# EAGLE library part ESP32-S2 (library ESP32-S2)
Check availability <https://pricing.snapeda.com/parts/ESP32-S2/Espressif%20Systems/view-part?ref=eda>
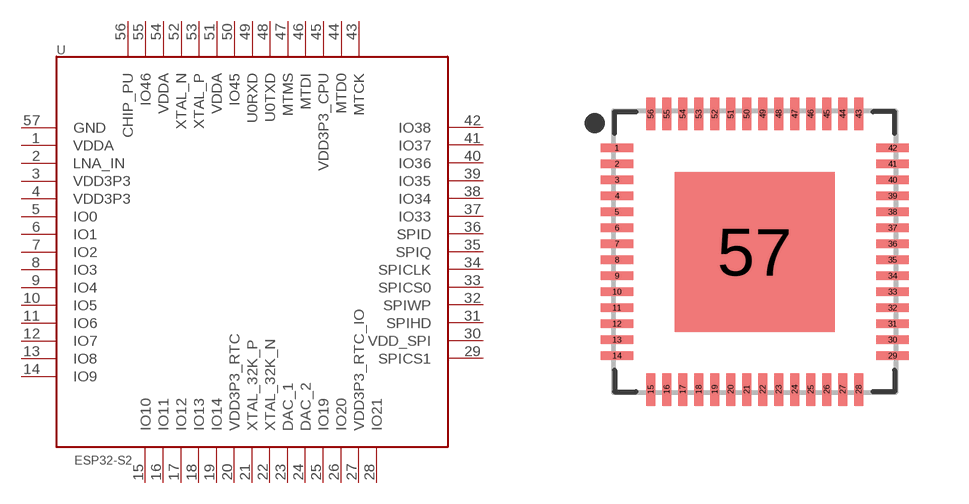
[diagram p0: symbol with the pads of QFN40P700X700X90-57T400N; footprint QFN40P700X700X90-57T400N]

Designator prefix -

## ESP32-S2QFN54 (Availability: In Stock; Check_prices: https://www.snapeda.com/parts/ESP32-S2/Espressif+Systems/view-part/?ref=eda; Description: WiFi 802.11b/g/n Transceiver Module 2.412GHz ~ 2.484GHz Antenna Not Included Surface Mount; MF: Espressif Systems; MP: ESP32-S2; Package: QFN-56 Espressif Systems; Price: None; SnapEDA_Link: https://www.snapeda.com/parts/ESP32-S2/Espressif+Systems/view-part/?ref=snap)  [QFN40P700X700X90-57T400N]
1  VDDA  pwr
2  LNA_IN
3  VDD3P3  pwr
4  VDD3P3  pwr
5  IO0
6  IO1
7  IO2
8  IO3
9  IO4
10  IO5
11  IO6
12  IO7
13  IO8
14  IO9
15  IO10
16  IO11
17  IO12
18  IO13
19  IO14
20  VDD3P3_RTC  pwr
21  XTAL_32K_P
22  XTAL_32K_N
23  DAC_1
24  DAC_2
25  IO19
26  IO20
27  VDD3P3_RTC_IO  pwr
28  IO21
29  SPICS1
30  VDD_SPI  pwr
31  SPIHD
32  SPIWP
33  SPICS0
34  SPICLK
35  SPIQ
36  SPID
37  IO33
38  IO34
39  IO35
40  IO36
41  IO37
42  IO38
43  MTCK
44  MTD0
45  VDD3P3_CPU  pwr
46  MTDI
47  MTMS
48  U0TXD
49  U0RXD
50  IO45
51  VDDA  pwr
52  XTAL_N
53  XTAL_P
54  VDDA  pwr
55  IO46  in
56  CHIP_PU  in
57  GND  pwr

## Footprint QFN40P700X700X90-57T400N (pad centres in mm)
56-QFN, 0.40 mm pitch, 7.00 X 7.00 X 0.90 mm body, 4.00 X 4.00 mm thermal pad 56-pin QFN package with 0.40 mm pitch with body size 7.00 X 7.00 X 0.90 mm and thermal pad size 4.00 X 4.00 mm
smd 0.81 x 0.22: 1 -3.445,2.6; 2 -3.445,2.2; 3 -3.445,1.8; 4 -3.445,1.4; 5 -3.445,1; 6 -3.445,0.6; 7 -3.445,0.2; 8 -3.445,-0.2; 9 -3.445,-0.6; 10 -3.445,-1; 11 -3.445,-1.4; 12 -3.445,-1.8; 13 -3.445,-2.2; 14 -3.445,-2.6; 29 3.445,-2.6; 30 3.445,-2.2; 31 3.445,-1.8; 32 3.445,-1.4; 33 3.445,-1; 34 3.445,-0.6; 35 3.445,-0.2; 36 3.445,0.2; 37 3.445,0.6; 38 3.445,1; 39 3.445,1.4; 40 3.445,1.8; 41 3.445,2.2; 42 3.445,2.6
smd 0.22 x 0.81: 15 -2.6,-3.445; 16 -2.2,-3.445; 17 -1.8,-3.445; 18 -1.4,-3.445; 19 -1,-3.445; 20 -0.6,-3.445; 21 -0.2,-3.445; 22 0.2,-3.445; 23 0.6,-3.445; 24 1,-3.445; 25 1.4,-3.445; 26 1.8,-3.445; 27 2.2,-3.445; 28 2.6,-3.445; 43 2.6,3.445; 44 2.2,3.445; 45 1.8,3.445; 46 1.4,3.445; 47 1,3.445; 48 0.6,3.445; 49 0.2,3.445; 50 -0.2,3.445; 51 -0.6,3.445; 52 -1,3.445; 53 -1.4,3.445; 54 -1.8,3.445; 55 -2.2,3.445; 56 -2.6,3.445
smd 4 x 4: 57 0,0